# Altium schematic symbol library Schlib1.SchLib: 5 symbols
Pins are listed as number, name and electrical type; pins without a type are passive.

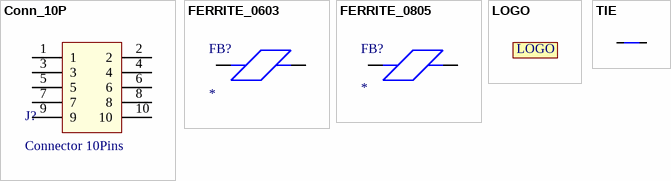
[diagram p0: symbols Conn_10P to TIE]

## Conn_10P
designator J?, comment Connector 10Pins
Connector 10 pins SMD pitch 2.54mm
footprint Conn_5x2_2.54_MD (Connector SMD 10 pin (5x2) pitch 2,54 mm)
pins: 1, 2, 3, 4, 5, 6, 7, 8, 9, 10

## FERRITE_0603
designator FB?, comment Ferrite bead Case 0603  (value not drawn)
Manufacturer Part Number: *
footprint Chip_0603
pins: 1, 2

## FERRITE_0805
designator FB?, comment Ferrite bead Case 0805  (value not drawn)
Manufacturer Part Number: *
footprint CHIP_0805
pins: 1, 2

## LOGO
designator ?
LOGO
footprint LOGO-QTECH

## TIE
designator ?
footprint tie
pins: 1, 2